# Altium schematic symbol library RES.SchLib: 321 symbols (part 1 of 3)
Pins are listed as number, name and electrical type; pins without a type are passive.

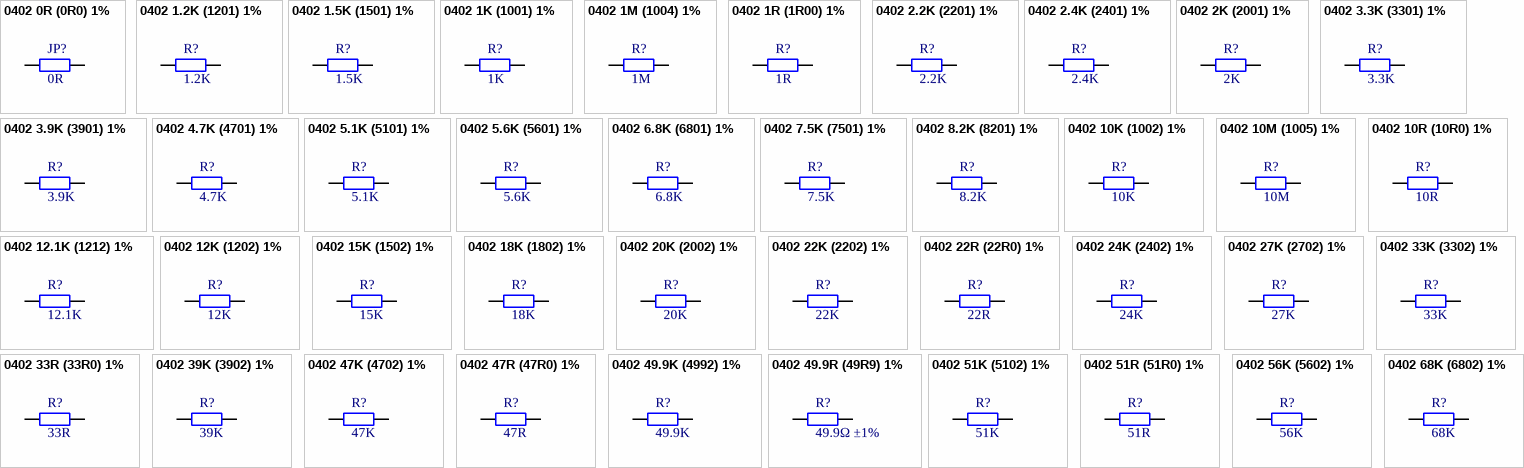
[diagram p0: symbols 0402 0R (0R0) 1% to 0402 68K (6802) 1%]

## 0402 0R (0R0) 1%
designator JP?, comment 0R
Chip resistor; Manufacturer: Uniroyal Elec; PartNumber: 0402WGF0000TCE; Power: 1/16W; Resistance: 0Ω; Tolerance: 1%; ComponentLink1Description: Supplier link; ComponentLink1URL: http://www.szlcsc.com/product/details_17853.html; Package: 0402; Supplier: LC; SuppliersPartNumber: C17168
footprint 0402_R
pins: 1, 2

## 0402 1.2K (1201) 1%
designator R?, comment 1.2K
Chip resistor; Manufacturer: Uniroyal Elec; PartNumber: 0402WGF1201TCE; Power: 1/16W; Resistance: 1.2KΩ; Tolerance: 1%; ComponentLink1Description: Supplier link; ComponentLink1URL: http://www.szlcsc.com/product/details_26605.html; Package: 0402; Supplier: LC; SuppliersPartNumber: C25862
footprint 0402_R
pins: 1, 2

## 0402 1.5K (1501) 1%
designator R?, comment 1.5K
Chip resistor; Manufacturer: Uniroyal Elec; PartNumber: 0402WGF1501TCE; Power: 1/16W; Resistance: 1.5KΩ; Tolerance: 1%; ComponentLink1Description: Supplier link; ComponentLink1URL: http://www.szlcsc.com/product/details_26610.html; Package: 0402; Supplier: LC; SuppliersPartNumber: C25867
footprint 0402_R
pins: 1, 2

## 0402 1K (1001) 1%
designator R?, comment 1K
Chip resistor; Manufacturer: Uniroyal Elec; PartNumber: 0402WGF1001TCE; Power: 1/16W; Resistance: 1KΩ; Tolerance: 1%; ComponentLink1Description: Supplier link; ComponentLink1URL: http://www.szlcsc.com/product/details_12256.html; Package: 0402; Supplier: LC; SuppliersPartNumber: C11702
footprint 0402_R
pins: 1, 2

## 0402 1M (1004) 1%
designator R?, comment 1M
Chip resistor; Manufacturer: Uniroyal Elec; PartNumber: 0402WGF1004TCE; Power: 1/16W; Resistance: 1MΩ; Tolerance: 1%; ComponentLink1Description: Supplier link; ComponentLink1URL: http://www.szlcsc.com/product/details_26826.html; Package: 0402; Supplier: LC; SuppliersPartNumber: C26083
footprint 0402_R
pins: 1, 2

## 0402 1R (1R00) 1%
designator R?, comment 1R
Chip resistor; Manufacturer: Uniroyal Elec; PartNumber: 0402WGF100KTCE; Power: 1/16W; Resistance: 1Ω; Tolerance: 1%; ComponentLink1Description: Supplier link; ComponentLink1URL: http://www.szlcsc.com/product/details_25829.html; Package: 0402; Supplier: LC; SuppliersPartNumber: C25086
footprint 0402_R
pins: 1, 2

## 0402 2.2K (2201) 1%
designator R?, comment 2.2K
Chip resistor; Manufacturer: Uniroyal Elec; PartNumber: 0402WGF2201TCE; Power: 1/16W; Resistance: 2.2KΩ; Tolerance: 1%; ComponentLink1Description: Supplier link; ComponentLink1URL: http://www.szlcsc.com/product/details_26622.html; Package: 0402; Supplier: LC; SuppliersPartNumber: C25879
footprint 0402_R
pins: 1, 2

## 0402 2.4K (2401) 1%
designator R?, comment 2.4K
Chip resistor; Manufacturer: Uniroyal Elec; PartNumber: 0402WGF2401TCE; Power: 1/16W; Resistance: 2.4KΩ; Tolerance: 1%; ComponentLink1Description: Supplier link; ComponentLink1URL: http://www.szlcsc.com/product/details_26625.html; Package: 0402; Supplier: LC; SuppliersPartNumber: C25882
footprint 0402_R
pins: 1, 2

## 0402 2K (2001) 1%
designator R?, comment 2K
Chip resistor; Manufacturer: Uniroyal Elec; PartNumber: 0402WGF2001TCE; Power: 1/16W; Resistance: 2KΩ; Tolerance: 1%; ComponentLink1Description: Supplier link; ComponentLink1URL: http://www.szlcsc.com/product/details_4516.html; Package: 0402; Supplier: LC; SuppliersPartNumber: C4109
footprint 0402_R
pins: 1, 2

## 0402 3.3K (3301) 1%
designator R?, comment 3.3K
Chip resistor; Manufacturer: Uniroyal Elec; PartNumber: 0402WGF3301TCE; Power: 1/16W; Resistance: 3.3KΩ; Tolerance: 1%; ComponentLink1Description: Supplier link; ComponentLink1URL: http://www.szlcsc.com/product/details_26633.html; Package: 0402; Supplier: LC; SuppliersPartNumber: C25890
footprint 0402_R
pins: 1, 2

## 0402 3.9K (3901) 1%
designator R?, comment 3.9K
Chip resistor; Manufacturer: Uniroyal Elec; PartNumber: 0402WGF3901TCE; Power: 1/16W; Resistance: 3.9KΩ; Tolerance: 1%; ComponentLink1Description: Supplier link; ComponentLink1URL: http://www.szlcsc.com/product/details_52734.html; Package: 0402; Supplier: LC; SuppliersPartNumber: C51721
footprint 0402_R
pins: 1, 2

## 0402 4.7K (4701) 1%
designator R?, comment 4.7K
Chip resistor; Manufacturer: Uniroyal Elec; PartNumber: 0402WGF4701TCE; Power: 1/16W; Resistance: 4.7KΩ; Tolerance: 1%; ComponentLink1Description: Supplier link; ComponentLink1URL: http://www.szlcsc.com/product/details_26643.html; Package: 0402; Supplier: LC; SuppliersPartNumber: C25900
footprint 0402_R
pins: 1, 2

## 0402 5.1K (5101) 1%
designator R?, comment 5.1K
Chip resistor; Manufacturer: Uniroyal Elec; PartNumber: 0402WGF5101TCE; Power: 1/16W; Resistance: 51.1KΩ; Tolerance: 1%; ComponentLink1Description: Supplier link; ComponentLink1URL: http://www.szlcsc.com/product/details_26648.html; Package: 0402; Supplier: LC; SuppliersPartNumber: C25905
footprint 0402_R
pins: 1, 2

## 0402 5.6K (5601) 1%
designator R?, comment 5.6K
Chip resistor; Manufacturer: Uniroyal Elec; PartNumber: 0402WGF5601TCE; Power: 1/16W; Resistance: 5.6KΩ; Tolerance: 1%; ComponentLink1Description: Supplier link; ComponentLink1URL: http://www.szlcsc.com/product/details_26651.html; Package: 0402; Supplier: LC; SuppliersPartNumber: C25908
footprint 0402_R
pins: 1, 2

## 0402 6.8K (6801) 1%
designator R?, comment 6.8K
Chip resistor; Manufacturer: Uniroyal Elec; PartNumber: 0402WGF6801TCE; Power: 1/16W; Resistance: 6.8KΩ; Tolerance: 1%; ComponentLink1Description: Supplier link; ComponentLink1URL: http://www.szlcsc.com/product/details_26660.html; Package: 0402; Supplier: LC; SuppliersPartNumber: C25917
footprint 0402_R
pins: 1, 2

## 0402 7.5K (7501) 1%
designator R?, comment 7.5K
Chip resistor; Manufacturer: Uniroyal Elec; PartNumber: 0402WGF7501TCE; Power: 1/16W; Resistance: 7.5KΩ; Tolerance: 1%; ComponentLink1Description: Supplier link; ComponentLink1URL: http://www.szlcsc.com/product/details_26661.html; Package: 0402; Supplier: LC; SuppliersPartNumber: C25918
footprint 0402_R
pins: 1, 2

## 0402 8.2K (8201) 1%
designator R?, comment 8.2K
Chip resistor; Manufacturer: Uniroyal Elec; PartNumber: 0402WGF8201TCE; Power: 1/16W; Resistance: 8.2KΩ; Tolerance: 1%; ComponentLink1Description: Supplier link; ComponentLink1URL: http://www.szlcsc.com/product/details_26667.html; Package: 0402; Supplier: LC; SuppliersPartNumber: C25924
footprint 0402_R
pins: 1, 2

## 0402 10K (1002) 1%
designator R?, comment 10K
Chip resistor; Manufacturer: Uniroyal Elec; PartNumber: 0402WGF1002TCE; Power: 1/16W; Resistance: 10KΩ; Tolerance: 1%; ComponentLink1Description: Supplier link; ComponentLink1URL: http://www.szlcsc.com/product/details_26487.html; Package: 0402; Supplier: LC; SuppliersPartNumber: C25744
footprint 0402_R
pins: 1, 2

## 0402 10M (1005) 1%
designator R?, comment 10M
Chip resistor; Manufacturer: Uniroyal Elec; PartNumber: 0402WGF1005TCE; Power: 1/16W; Resistance: 10MΩ; Tolerance: 1%; ComponentLink1Description: Supplier link; ComponentLink1URL: http://www.szlcsc.com/product/details_26825.html; Package: 0402; Supplier: LC; SuppliersPartNumber: C26082
footprint 0402_R
pins: 1, 2

## 0402 10R (10R0) 1%
designator R?, comment 10R
Chip resistor; Manufacturer: Uniroyal Elec; PartNumber: 0402WGF100JTCE; Power: 1/16W; Resistance: 10Ω; Tolerance: 1%; ComponentLink1Description: Supplier link; ComponentLink1URL: http://www.szlcsc.com/product/details_25820.html; Package: 0402; Supplier: LC; SuppliersPartNumber: C25077
footprint 0402_R
pins: 1, 2

## 0402 12.1K (1212) 1%
designator R?, comment 12.1K
Chip resistor; Manufacturer: Uniroyal Elec; PartNumber: 0402WGF1212TCE; Power: 1/16W; Resistance: 12.1KΩ; Tolerance: 1%; ComponentLink1Description: Supplier link; ComponentLink1URL: https://item.szlcsc.com/26595.html; Package: 0402; Supplier: LC; SuppliersPartNumber: C25852
footprint 0402_R
pins: 1, 2

## 0402 12K (1202) 1%
designator R?, comment 12K
Chip resistor; Manufacturer: Uniroyal Elec; PartNumber: 0402WGF1202TCE; Power: 1/16W; Resistance: 12KΩ; Tolerance: 1%; ComponentLink1Description: Supplier link; ComponentLink1URL: http://www.szlcsc.com/product/details_26495.html; Package: 0402; Supplier: LC; SuppliersPartNumber: C25752
footprint 0402_R
pins: 1, 2

## 0402 15K (1502) 1%
designator R?, comment 15K
Chip resistor; Manufacturer: Uniroyal Elec; PartNumber: 0402WGF1502TCE; Power: 1/16W; Resistance: 15KΩ; Tolerance: 1%; ComponentLink1Description: Supplier link; ComponentLink1URL: http://www.szlcsc.com/product/details_26499.html; Package: 0402; Supplier: LC; SuppliersPartNumber: C25756
footprint 0402_R
pins: 1, 2

## 0402 18K (1802) 1%
designator R?, comment 18K
Chip resistor; Manufacturer: Uniroyal Elec; PartNumber: 0402WGF1802TCE; Power: 1/16W; Resistance: 18KΩ; Tolerance: 1%; ComponentLink1Description: Supplier link; ComponentLink1URL: http://www.szlcsc.com/product/details_26505.html; Package: 0402; Supplier: LC; SuppliersPartNumber: C25762
footprint 0402_R
pins: 1, 2

## 0402 20K (2002) 1%
designator R?, comment 20K
Chip resistor; Manufacturer: Uniroyal Elec; PartNumber: 0402WGF2002TCE; Power: 1/16W; Resistance: 20KΩ; Tolerance: 1%; ComponentLink1Description: Supplier link; ComponentLink1URL: http://www.szlcsc.com/product/details_26508.html; Package: 0402; Supplier: LC; SuppliersPartNumber: C25765
footprint 0402_R
pins: 1, 2

## 0402 22K (2202) 1%
designator R?, comment 22K
Chip resistor; Manufacturer: Uniroyal Elec; PartNumber: 0402WGF2202TCE; Power: 1/16W; Resistance: 22KΩ; Tolerance: 1%; ComponentLink1Description: Supplier link; ComponentLink1URL: http://www.szlcsc.com/product/details_26511.html; Package: 0402; Supplier: LC; SuppliersPartNumber: C25768
footprint 0402_R
pins: 1, 2

## 0402 22R (22R0) 1%
designator R?, comment 22R
Chip resistor; Manufacturer: Uniroyal Elec; PartNumber: 0402WGF220JTCE; Power: 1/16W; Resistance: 22Ω; Tolerance: 1%; ComponentLink1Description: Supplier link; ComponentLink1URL: http://www.szlcsc.com/product/details_25835.html; Package: 0402; Supplier: LC; SuppliersPartNumber: C25092
footprint 0402_R
pins: 1, 2

## 0402 24K (2402) 1%
designator R?, comment 24K
Chip resistor; Manufacturer: Uniroyal Elec; PartNumber: 0402WGF2402TCE; Power: 1/16W; Resistance: 24KΩ; Tolerance: 1%; ComponentLink1Description: Supplier link; ComponentLink1URL: http://www.szlcsc.com/product/details_26512.html; Package: 0402; Supplier: LC; SuppliersPartNumber: C25769
footprint 0402_R
pins: 1, 2

## 0402 27K (2702) 1%
designator R?, comment 27K
Chip resistor; Manufacturer: Uniroyal Elec; PartNumber: 0402WGF2702TCE; Power: 1/16W; Resistance: 27KΩ; Tolerance: 1%; ComponentLink1Description: Supplier link; ComponentLink1URL: http://www.szlcsc.com/product/details_26514.html; Package: 0402; Supplier: LC; SuppliersPartNumber: C25771
footprint 0402_R
pins: 1, 2

## 0402 33K (3302) 1%
designator R?, comment 33K
Chip resistor; Manufacturer: Uniroyal Elec; PartNumber: 0402WGF3302TCE; Power: 1/16W; Resistance: 33KΩ; Tolerance: 1%; ComponentLink1Description: Supplier link; ComponentLink1URL: http://www.szlcsc.com/product/details_26522.html; Package: 0402; Supplier: LC; SuppliersPartNumber: C25779
footprint 0402_R
pins: 1, 2

## 0402 33R (33R0) 1%
designator R?, comment 33R
Chip resistor; Manufacturer: Uniroyal Elec; PartNumber: 0402WGF330JTCE; Power: 1/16W; Resistance: 33Ω; Tolerance: 1%; ComponentLink1Description: Supplier link; ComponentLink1URL: http://www.szlcsc.com/product/details_25848.html; Package: 0402; Supplier: LC; SuppliersPartNumber: C25105
footprint 0402_R
pins: 1, 2

## 0402 39K (3902) 1%
designator R?, comment 39K
Chip resistor; Manufacturer: Uniroyal Elec; PartNumber: 0402WGF3902TCE; Power: 1/16W; Resistance: 39KΩ; Tolerance: 1%; ComponentLink1Description: Supplier link; ComponentLink1URL: http://www.szlcsc.com/product/details_26526.html; Package: 0402; Supplier: LC; SuppliersPartNumber: C25783
footprint 0402_R
pins: 1, 2

## 0402 47K (4702) 1%
designator R?, comment 47K
Chip resistor; Manufacturer: Uniroyal Elec; PartNumber: 0402WGF4702TCE; Power: 1/16W; Resistance: 47KΩ; Tolerance: 1%; ComponentLink1Description: Supplier link; ComponentLink1URL: http://www.szlcsc.com/product/details_26535.html; Package: 0402; Supplier: LC; SuppliersPartNumber: C25792
footprint 0402_R
pins: 1, 2

## 0402 47R (47R0) 1%
designator R?, comment 47R
Chip resistor; Manufacturer: Uniroyal Elec; PartNumber: 0402WGF470JTCE; Power: 1/16W; Resistance: 47Ω; Tolerance: 1%; ComponentLink1Description: Supplier link; ComponentLink1URL: http://www.szlcsc.com/product/details_25861.html; Package: 0402; Supplier: LC; SuppliersPartNumber: C25118
footprint 0402_R
pins: 1, 2

## 0402 49.9K (4992) 1%
designator R?, comment 49.9K
Chip resistor; Manufacturer: Uniroyal Elec; PartNumber: 0402WGF4992TCE; Power: 1/16W; Resistance: 49.9KΩ; Tolerance: 1%; ComponentLink1Description: Supplier link; ComponentLink1URL: http://www.szlcsc.com/product/details_26640.html; Package: 0402; Supplier: LC; SuppliersPartNumber: C25897
footprint 0402_R
pins: 1, 2

## 0402 49.9R (49R9) 1%
designator R?, comment 49.9Ω ±1%
Chip resistor; Manufacturer: Uniroyal Elec; PartNumber: 0402WGF499JTCE; Power: 1/16W; ComponentLink1Description: Supplier link; ComponentLink1URL: http://www.szlcsc.com/product/details_25863.html; Package: 0402; Supplier: LC; SuppliersPartNumber: C25120; Resistance: 49.9Ω; Tolerance: 1%
footprint 0402_R
pins: 1, 2

## 0402 51K (5102) 1%
designator R?, comment 51K
Chip resistor; Manufacturer: Uniroyal Elec; PartNumber: 0402WGF5102TCE; Power: 1/16W; Resistance: 51KΩ; Tolerance: 1%; ComponentLink1Description: Supplier link; ComponentLink1URL: http://www.szlcsc.com/product/details_26537.html; Package: 0402; Supplier: LC; SuppliersPartNumber: C25794
footprint 0402_R
pins: 1, 2

## 0402 51R (51R0) 1%
designator R?, comment 51R
Chip resistor; Manufacturer: Uniroyal Elec; PartNumber: 0402WGF510JTCE; Power: 1/16W; Resistance: 51Ω; Tolerance: 1%; ComponentLink1Description: Supplier link; ComponentLink1URL: http://www.szlcsc.com/product/details_25868.html; Package: 0402; Supplier: LC; SuppliersPartNumber: C25125
footprint 0402_R
pins: 1, 2

## 0402 56K (5602) 1%
designator R?, comment 56K
Chip resistor; Manufacturer: Uniroyal Elec; PartNumber: 0402WGF5602TCE; Power: 1/16W; Resistance: 56KΩ; Tolerance: 1%; ComponentLink1Description: Supplier link; ComponentLink1URL: http://www.szlcsc.com/product/details_26539.html; Package: 0402; Supplier: LC; SuppliersPartNumber: C25796
footprint 0402_R
pins: 1, 2

## 0402 68K (6802) 1%
designator R?, comment 68K
Chip resistor; Manufacturer: Uniroyal Elec; PartNumber: 0402WGF6802TCE; Power: 1/16W; Resistance: 68KΩ; Tolerance: 1%; ComponentLink1Description: Supplier link; ComponentLink1URL: http://www.szlcsc.com/product/details_37849.html; Package: 0402; Supplier: LC; SuppliersPartNumber: C36871
footprint 0402_R
pins: 1, 2

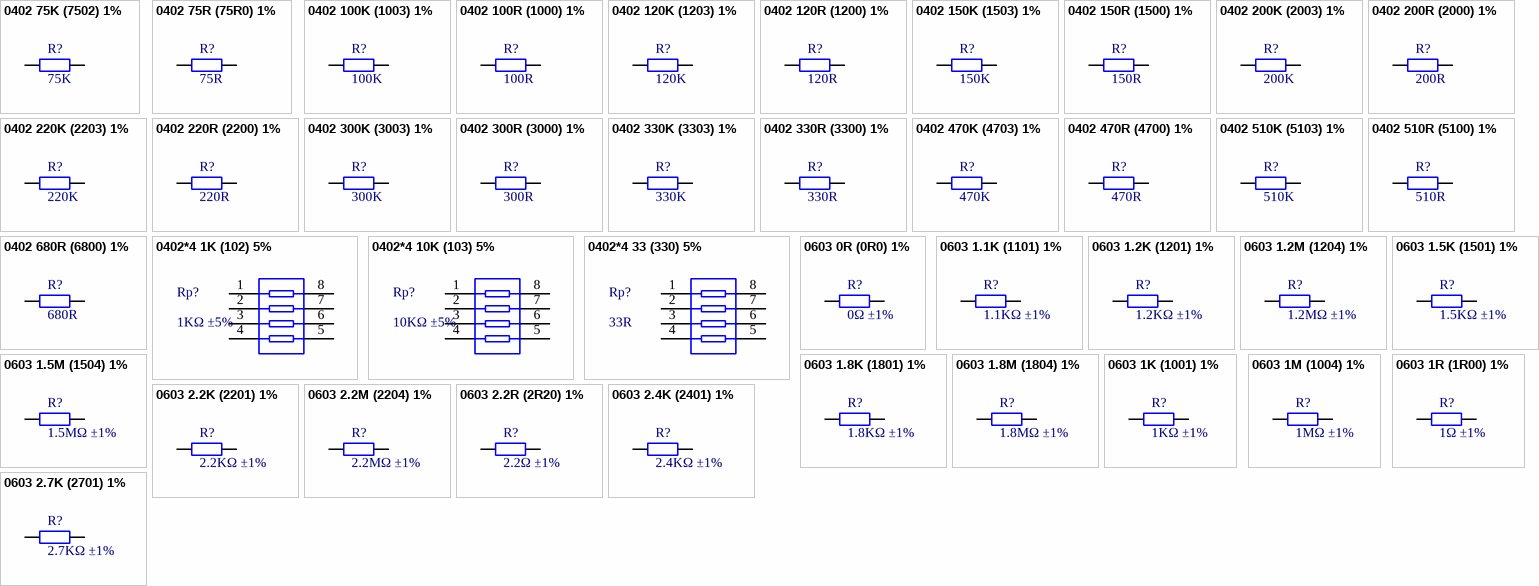
[diagram p1: symbols 0402 75K (7502) 1% to 0603 2.7K (2701) 1%]

## 0402 75K (7502) 1%
designator R?, comment 75K
Chip resistor; Manufacturer: Uniroyal Elec; PartNumber: 0402WGF7502TCE; Power: 1/16W; Resistance: 75KΩ; Tolerance: 1%; ComponentLink1Description: Supplier link; ComponentLink1URL: http://www.szlcsc.com/product/details_26541.html; Package: 0402; Supplier: LC; SuppliersPartNumber: C25798
footprint 0402_R
pins: 1, 2

## 0402 75R (75R0) 1%
designator R?, comment 75R
Chip resistor; Manufacturer: Uniroyal Elec; PartNumber: 0402WGF750JTCE; Power: 1/16W; Resistance: 75Ω; Tolerance: 1%; ComponentLink1Description: Supplier link; ComponentLink1URL: http://www.szlcsc.com/product/details_25876.html; Package: 0402; Supplier: LC; SuppliersPartNumber: C25133
footprint 0402_R
pins: 1, 2

## 0402 100K (1003) 1%
designator R?, comment 100K
Chip resistor; Manufacturer: Uniroyal Elec; PartNumber: 0402WGF1003TCE; Power: 1/16W; Resistance: 100KΩ; Tolerance: 1%; ComponentLink1Description: Supplier link; ComponentLink1URL: http://www.szlcsc.com/product/details_26484.html; Package: 0402; Supplier: LC; SuppliersPartNumber: C25741
footprint 0402_R
pins: 1, 2

## 0402 100R (1000) 1%
designator R?, comment 100R
Chip resistor; Manufacturer: Uniroyal Elec; PartNumber: 0402WGF1000TCE; Power: 1/16W; Resistance: 100Ω; Tolerance: 1%; ComponentLink1Description: Supplier link; ComponentLink1URL: http://www.szlcsc.com/product/details_25819.html; Package: 0402; Supplier: LC; SuppliersPartNumber: C25076
footprint 0402_R
pins: 1, 2

## 0402 120K (1203) 1%
designator R?, comment 120K
Chip resistor; Manufacturer: Uniroyal Elec; PartNumber: 0402WGF1203TCE; Power: 1/16W; Resistance: 120KΩ; Tolerance: 1%; ComponentLink1Description: Supplier link; ComponentLink1URL: http://www.szlcsc.com/product/details_26493.html; Package: 0402; Supplier: LC; SuppliersPartNumber: C25750
footprint 0402_R
pins: 1, 2

## 0402 120R (1200) 1%
designator R?, comment 120R
Chip resistor; Manufacturer: Uniroyal Elec; PartNumber: 0402WGF1200TCE; Power: 1/16W; Resistance: 120Ω; Tolerance: 1%; ComponentLink1Description: Supplier link; ComponentLink1URL: http://www.szlcsc.com/product/details_25822.html; Package: 0402; Supplier: LC; SuppliersPartNumber: C25079
footprint 0402_R
pins: 1, 2

## 0402 150K (1503) 1%
designator R?, comment 150K
Chip resistor; Manufacturer: Uniroyal Elec; PartNumber: 0402WGF1503TCE; Power: 1/16W; Resistance: 150KΩ; Tolerance: 1%; ComponentLink1Description: Supplier link; ComponentLink1URL: http://www.szlcsc.com/product/details_26498.html; Package: 0402; Supplier: LC; SuppliersPartNumber: C25755
footprint 0402_R
pins: 1, 2

## 0402 150R (1500) 1%
designator R?, comment 150R
Chip resistor; Manufacturer: Uniroyal Elec; PartNumber: 0402WGF1500TCE; Power: 1/16W; Resistance: 150Ω; Tolerance: 1%; ComponentLink1Description: Supplier link; ComponentLink1URL: http://www.szlcsc.com/product/details_25825.html; Package: 0402; Supplier: LC; SuppliersPartNumber: C25082
footprint 0402_R
pins: 1, 2

## 0402 200K (2003) 1%
designator R?, comment 200K
Chip resistor; Manufacturer: Uniroyal Elec; PartNumber: 0402WGF2003TCE; Power: 1/16W; Resistance: 200KΩ; Tolerance: 1%; ComponentLink1Description: Supplier link; ComponentLink1URL: http://www.szlcsc.com/product/details_26507.html; Package: 0402; Supplier: LC; SuppliersPartNumber: C25764
footprint 0402_R
pins: 1, 2

## 0402 200R (2000) 1%
designator R?, comment 200R
Chip resistor; Manufacturer: Uniroyal Elec; PartNumber: 0402WGF2000TCE; Power: 1/16W; Resistance: 200Ω; Tolerance: 1%; ComponentLink1Description: Supplier link; ComponentLink1URL: http://www.szlcsc.com/product/details_25830.html; Package: 0402; Supplier: LC; SuppliersPartNumber: C25087
footprint 0402_R
pins: 1, 2

## 0402 220K (2203) 1%
designator R?, comment 220K
Chip resistor; Manufacturer: Uniroyal Elec; PartNumber: 0402WGF2203TCE; Power: 1/16W; Resistance: 220KΩ; Tolerance: 1%; ComponentLink1Description: Supplier link; ComponentLink1URL: http://www.szlcsc.com/product/details_26510.html; Package: 0402; Supplier: LC; SuppliersPartNumber: C25767
footprint 0402_R
pins: 1, 2

## 0402 220R (2200) 1%
designator R?, comment 220R
Chip resistor; Manufacturer: Uniroyal Elec; PartNumber: 0402WGF2200TCE; Power: 1/16W; Resistance: 220Ω; Tolerance: 1%; ComponentLink1Description: Supplier link; ComponentLink1URL: http://www.szlcsc.com/product/details_25834.html; Package: 0402; Supplier: LC; SuppliersPartNumber: C25091
footprint 0402_R
pins: 1, 2

## 0402 300K (3003) 1%
designator R?, comment 300K
Chip resistor; Manufacturer: Uniroyal Elec; PartNumber: 0402WGF3003TCE; Power: 1/16W; Resistance: 300KΩ; Tolerance: 1%; ComponentLink1Description: Supplier link; ComponentLink1URL: http://www.szlcsc.com/product/details_26517.html; Package: 0402; Supplier: LC; SuppliersPartNumber: C25774
footprint 0402_R
pins: 1, 2

## 0402 300R (3000) 1%
designator R?, comment 300R
Chip resistor; Manufacturer: Uniroyal Elec; PartNumber: 0402WGF3000TCE; Power: 1/16W; Resistance: 300Ω; Tolerance: 1%; ComponentLink1Description: Supplier link; ComponentLink1URL: http://www.szlcsc.com/product/details_25845.html; Package: 0402; Supplier: LC; SuppliersPartNumber: C25102
footprint 0402_R
pins: 1, 2

## 0402 330K (3303) 1%
designator R?, comment 330K
Chip resistor; Manufacturer: Uniroyal Elec; PartNumber: 0402WGF3303TCE; Power: 1/16W; Resistance: 330KΩ; Tolerance: 1%; ComponentLink1Description: Supplier link; ComponentLink1URL: http://www.szlcsc.com/product/details_26521.html; Package: 0402; Supplier: LC; SuppliersPartNumber: C25778
footprint 0402_R
pins: 1, 2

## 0402 330R (3300) 1%
designator R?, comment 330R
Chip resistor; Manufacturer: Uniroyal Elec; PartNumber: 0402WGF3300TCE; Power: 1/16W; Resistance: 330Ω; Tolerance: 1%; ComponentLink1Description: Supplier link; ComponentLink1URL: http://www.szlcsc.com/product/details_25847.html; Package: 0402; Supplier: LC; SuppliersPartNumber: C25104
footprint 0402_R
pins: 1, 2

## 0402 470K (4703) 1%
designator R?, comment 470K
Chip resistor; Manufacturer: Uniroyal Elec; PartNumber: 0402WGF4703TCE; Power: 1/16W; Resistance: 470KΩ; Tolerance: 1%; ComponentLink1Description: Supplier link; ComponentLink1URL: http://www.szlcsc.com/product/details_26533.html; Package: 0402; Supplier: LC; SuppliersPartNumber: C25790
footprint 0402_R
pins: 1, 2

## 0402 470R (4700) 1%
designator R?, comment 470R
Chip resistor; Manufacturer: Uniroyal Elec; PartNumber: 0402WGF4700TCE; Power: 1/16W; Resistance: 470Ω; Tolerance: 1%; ComponentLink1Description: Supplier link; ComponentLink1URL: http://www.szlcsc.com/product/details_25860.html; Package: 0402; Supplier: LC; SuppliersPartNumber: C25117
footprint 0402_R
pins: 1, 2

## 0402 510K (5103) 1%
designator R?, comment 510K
Chip resistor; Manufacturer: Uniroyal Elec; PartNumber: 0402WGF5103TCE; Power: 1/16W; Resistance: 510KΩ; Tolerance: 1%; ComponentLink1Description: Supplier link; ComponentLink1URL: http://www.szlcsc.com/product/details_12170.html; Package: 0402; Supplier: LC; SuppliersPartNumber: C11616
footprint 0402_R
pins: 1, 2

## 0402 510R (5100) 1%
designator R?, comment 510R
Chip resistor; Manufacturer: Uniroyal Elec; PartNumber: 0402WGF5100TCE; Power: 1/16W; Resistance: 510Ω; Tolerance: 1%; ComponentLink1Description: Supplier link; ComponentLink1URL: http://www.szlcsc.com/product/details_25866.html; Package: 0402; Supplier: LC; SuppliersPartNumber: C25123
footprint 0402_R
pins: 1, 2

## 0402 680R (6800) 1%
designator R?, comment 680R
Chip resistor; Manufacturer: Uniroyal Elec; PartNumber: 0402WGF6800TCE; Power: 1/16W; Resistance: 680Ω; Tolerance: 1%; ComponentLink1Description: Supplier link; ComponentLink1URL: http://www.szlcsc.com/product/details_25873.html; Package: 0402; Supplier: LC; SuppliersPartNumber: C25130
footprint 0402_R
pins: 1, 2

## 0402*4 1K (102) 5%
designator Rp?, comment 1KΩ ±5%
Resistor Array; Manufacturer: Uniroyal Elec; PartNumber: 4D02WGJ0102TCE; Power: 1/16W; ComponentLink1Description: Supplier link; ComponentLink1URL: http://www.szlcsc.com/product/details_26469.html; Package: 0402*4; Supplier: LC; SuppliersPartNumber: C25726; Tolerance: 5%; Resistance: 1KΩ
footprint 0402_Rx4
pins: 1, 2, 3, 4, 5, 6, 7, 8

## 0402*4 10K (103) 5%
designator Rp?, comment 10KΩ ±5%
Resistor Array; Manufacturer: Uniroyal Elec; PartNumber: 4D02WGJ0103TCE; Power: 1/16W; ComponentLink1Description: Supplier link; ComponentLink1URL: http://www.szlcsc.com/product/details_26468.html; Package: 0402*4; Supplier: LC; SuppliersPartNumber: C25725; Tolerance: 5%; Resistance: 10KΩ
footprint 0402_Rx4
pins: 1, 2, 3, 4, 5, 6, 7, 8

## 0402*4 33 (330) 5%
designator Rp?, comment 33R
Resistor Array; Manufacturer: Uniroyal Elec; PartNumber: 4D02WGJ0330TCE; Resistance: 33Ω; Tolerance: 5%; Power: 1/16W; ComponentLink1Description: Supplier link; ComponentLink1URL: http://www.szlcsc.com/product/details_26244.html; Package: 0402*4; Supplier: LC; SuppliersPartNumber: C25501
footprint 0402_Rx4
pins: 1, 2, 3, 4, 5, 6, 7, 8

## 0603 0R (0R0) 1%
designator R?, comment 0Ω ±1%
Chip resistor; Manufacturer: Uniroyal Elec; PartNumber: 0603WAF0000T5E; Power: 1/10W; ComponentLink1Description: Supplier link; ComponentLink1URL: http://www.szlcsc.com/product/details_21903.html; Package: 0603; Supplier: LC; SuppliersPartNumber: C21189; Resistance: 0Ω; Tolerance: 1%
footprint 0603_R
pins: 1, 2

## 0603 1.1K (1101) 1%
designator R?, comment 1.1KΩ ±1%
Chip resistor; Manufacturer: Uniroyal Elec; PartNumber: 0603WAF1101T5E; Power: 1/10W; ComponentLink1Description: Supplier link; ComponentLink1URL: http://www.szlcsc.com/product/details_23491.html; Package: 0603; Supplier: LC; SuppliersPartNumber: C22764; Resistance: 1.1KΩ; Tolerance: 1%
footprint 0603_R
pins: 1, 2

## 0603 1.2K (1201) 1%
designator R?, comment 1.2KΩ ±1%
Chip resistor; Manufacturer: Uniroyal Elec; PartNumber: 0603WAF1201T5E; Power: 1/10W; ComponentLink1Description: Supplier link; ComponentLink1URL: http://www.szlcsc.com/product/details_23492.html; Package: 0603; Supplier: LC; SuppliersPartNumber: C22765; Resistance: 1.2KΩ; Tolerance: 1%
footprint 0603_R
pins: 1, 2

## 0603 1.2M (1204) 1%
designator R?, comment 1.2MΩ ±1%
Chip resistor; Manufacturer: Uniroyal Elec; PartNumber: 0603WAF1204T5E; Power: 1/10W; ComponentLink1Description: Supplier link; ComponentLink1URL: http://www.szlcsc.com/product/details_23493.html; Package: 0603; Supplier: LC; SuppliersPartNumber: C22766; Resistance: 1.2MΩ; Tolerance: 1%
footprint 0603_R
pins: 1, 2

## 0603 1.5K (1501) 1%
designator R?, comment 1.5KΩ ±1%
Chip resistor; Manufacturer: Uniroyal Elec; PartNumber: 0603WAF1501T5E; Power: 1/10W; ComponentLink1Description: Supplier link; ComponentLink1URL: http://www.szlcsc.com/product/details_23570.html; Package: 0603; Supplier: LC; SuppliersPartNumber: C22843; Resistance: 1.5KΩ; Tolerance: 1%
footprint 0603_R
pins: 1, 2

## 0603 1.5M (1504) 1%
designator R?, comment 1.5MΩ ±1%
Chip resistor; Manufacturer: Uniroyal Elec; PartNumber: 0603WAF1504T5E; Power: 1/10W; ComponentLink1Description: Supplier link; ComponentLink1URL: http://www.szlcsc.com/product/details_4579.html; Package: 0603; Supplier: LC; SuppliersPartNumber: C4172; Resistance: 1.5MΩ; Tolerance: 1%
footprint 0603_R
pins: 1, 2

## 0603 1.8K (1801) 1%
designator R?, comment 1.8KΩ ±1%
Chip resistor; Manufacturer: Uniroyal Elec; PartNumber: 0603WAF1801T5E; Power: 1/10W; ComponentLink1Description: Supplier link; ComponentLink1URL: http://www.szlcsc.com/product/details_4584.html; Package: 0603; Supplier: LC; SuppliersPartNumber: C4177; Resistance: 1.8KΩ; Tolerance: 1%
footprint 0603_R
pins: 1, 2

## 0603 1.8M (1804) 1%
designator R?, comment 1.8MΩ ±1%
Chip resistor; Manufacturer: Uniroyal Elec; PartNumber: 0603WAF1804T5E; Power: 1/10W; ComponentLink1Description: Supplier link; ComponentLink1URL: http://www.szlcsc.com/product/details_23579.html; Package: 0603; Supplier: LC; SuppliersPartNumber: C22852; Resistance: 1.8MΩ; Tolerance: 1%
footprint 0603_R
pins: 1, 2

## 0603 1K (1001) 1%
designator R?, comment 1KΩ ±1%
Chip resistor; Manufacturer: Uniroyal Elec; PartNumber: 0603WAF1001T5E; Power: 1/10W; ComponentLink1Description: Supplier link; ComponentLink1URL: http://www.szlcsc.com/product/details_21904.html; Package: 0603; Supplier: LC; SuppliersPartNumber: C21190; Resistance: 1KΩ; Tolerance: 1%
footprint 0603_R
pins: 1, 2

## 0603 1M (1004) 1%
designator R?, comment 1MΩ ±1%
Chip resistor; Manufacturer: Uniroyal Elec; PartNumber: 0603WAF1004T5E; Power: 1/10W; ComponentLink1Description: Supplier link; ComponentLink1URL: http://www.szlcsc.com/product/details_23662.html; Package: 0603; Supplier: LC; SuppliersPartNumber: C22935; Resistance: 1MΩ; Tolerance: 1%
footprint 0603_R
pins: 1, 2

## 0603 1R (1R00) 1%
designator R?, comment 1Ω ±1%
Chip resistor; Manufacturer: Uniroyal Elec; PartNumber: 0603WAF100KT5E; Power: 1/10W; ComponentLink1Description: Supplier link; ComponentLink1URL: http://www.szlcsc.com/product/details_23663.html; Package: 0603; Supplier: LC; SuppliersPartNumber: C22936; Resistance: 1Ω; Tolerance: 1%
footprint 0603_R
pins: 1, 2

## 0603 2.2K (2201) 1%
designator R?, comment 2.2KΩ ±1%
Chip resistor; Manufacturer: Uniroyal Elec; PartNumber: 0603WAF2201T5E; Power: 1/10W; ComponentLink1Description: Supplier link; ComponentLink1URL: http://www.szlcsc.com/product/details_4597.html; Package: 0603; Supplier: LC; SuppliersPartNumber: C4190; Resistance: 2.2KΩ; Tolerance: 1%
footprint 0603_R
pins: 1, 2

## 0603 2.2M (2204) 1%
designator R?, comment 2.2MΩ ±1%
Chip resistor; Manufacturer: Uniroyal Elec; PartNumber: 0603WAF2204T5E; Power: 1/10W; ComponentLink1Description: Supplier link; ComponentLink1URL: http://www.szlcsc.com/product/details_23665.html; Package: 0603; Supplier: LC; SuppliersPartNumber: C22938; Resistance: 2.2MΩ; Tolerance: 1%
footprint 0603_R
pins: 1, 2

## 0603 2.2R (2R20) 1%
designator R?, comment 2.2Ω ±1%
Chip resistor; Manufacturer: Uniroyal Elec; PartNumber: 0603WAF220KT5E; Power: 1/10W; ComponentLink1Description: Supplier link; ComponentLink1URL: http://www.szlcsc.com/product/details_23666.html; Package: 0603; Supplier: LC; SuppliersPartNumber: C22939; Resistance: 2.2Ω; Tolerance: 1%
footprint 0603_R
pins: 1, 2

## 0603 2.4K (2401) 1%
designator R?, comment 2.4KΩ ±1%
Chip resistor; Manufacturer: Uniroyal Elec; PartNumber: 0603WAF2401T5E; Power: 1/10W; ComponentLink1Description: Supplier link; ComponentLink1URL: http://www.szlcsc.com/product/details_23667.html; Package: 0603; Supplier: LC; SuppliersPartNumber: C22940; Resistance: 2.4KΩ; Tolerance: 1%
footprint 0603_R
pins: 1, 2

## 0603 2.7K (2701) 1%
designator R?, comment 2.7KΩ ±1%
Chip resistor; Manufacturer: Uniroyal Elec; PartNumber: 0603WAF2701T5E; Power: 1/10W; ComponentLink1Description: Supplier link; ComponentLink1URL: http://www.szlcsc.com/product/details_13814.html; Package: 0603; Supplier: LC; SuppliersPartNumber: C13167; Resistance: 2.7KΩ; Tolerance: 1%
footprint 0603_R
pins: 1, 2

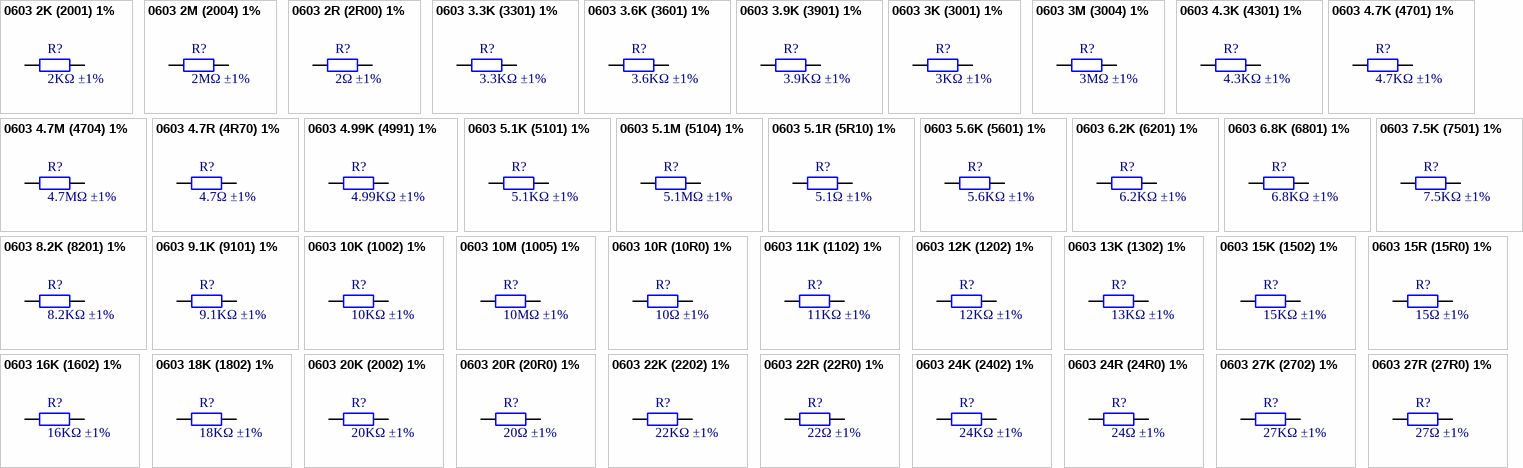
[diagram p2: symbols 0603 2K (2001) 1% to 0603 27R (27R0) 1%]

## 0603 2K (2001) 1%
designator R?, comment 2KΩ ±1%
Chip resistor; Manufacturer: Uniroyal Elec; PartNumber: 0603WAF2001T5E; Power: 1/10W; ComponentLink1Description: Supplier link; ComponentLink1URL: http://www.szlcsc.com/product/details_23702.html; Package: 0603; Supplier: LC; SuppliersPartNumber: C22975; Resistance: 2KΩ; Tolerance: 1%
footprint 0603_R
pins: 1, 2

## 0603 2M (2004) 1%
designator R?, comment 2MΩ ±1%
Chip resistor; Manufacturer: Uniroyal Elec; PartNumber: 0603WAF2004T5E; Power: 1/10W; ComponentLink1Description: Supplier link; ComponentLink1URL: http://www.szlcsc.com/product/details_23703.html; Package: 0603; Supplier: LC; SuppliersPartNumber: C22976; Resistance: 2MΩ; Tolerance: 1%
footprint 0603_R
pins: 1, 2

## 0603 2R (2R00) 1%
designator R?, comment 2Ω ±1%
Chip resistor; Manufacturer: Uniroyal Elec; PartNumber: 0603WAF200KT5E; Power: 1/10W; ComponentLink1Description: Supplier link; ComponentLink1URL: http://www.szlcsc.com/product/details_23704.html; Package: 0603; Supplier: LC; SuppliersPartNumber: C22977; Resistance: 2Ω; Tolerance: 1%
footprint 0603_R
pins: 1, 2

## 0603 3.3K (3301) 1%
designator R?, comment 3.3KΩ ±1%
Chip resistor; Manufacturer: Uniroyal Elec; PartNumber: 0603WAF3301T5E; Power: 1/10W; ComponentLink1Description: Supplier link; ComponentLink1URL: http://www.szlcsc.com/product/details_23705.html; Package: 0603; Supplier: LC; SuppliersPartNumber: C22978; Resistance: 3.3KΩ; Tolerance: 1%
footprint 0603_R
pins: 1, 2

## 0603 3.6K (3601) 1%
designator R?, comment 3.6KΩ ±1%
Chip resistor; Manufacturer: Uniroyal Elec; PartNumber: 0603WAF3601T5E; Power: 1/10W; ComponentLink1Description: Supplier link; ComponentLink1URL: http://www.szlcsc.com/product/details_23707.html; Package: 0603; Supplier: LC; SuppliersPartNumber: C22980; Resistance: 3.6KΩ; Tolerance: 1%
footprint 0603_R
pins: 1, 2

## 0603 3.9K (3901) 1%
designator R?, comment 3.9KΩ ±1%
Chip resistor; Manufacturer: Uniroyal Elec; PartNumber: 0603WAF3901T5E; Power: 1/10W; ComponentLink1Description: Supplier link; ComponentLink1URL: http://www.szlcsc.com/product/details_23745.html; Package: 0603; Supplier: LC; SuppliersPartNumber: C23018; Resistance: 3.9KΩ; Tolerance: 1%
footprint 0603_R
pins: 1, 2

## 0603 3K (3001) 1%
designator R?, comment 3KΩ ±1%
Chip resistor; Manufacturer: Uniroyal Elec; PartNumber: 0603WAF3001T5E; Power: 1/10W; ComponentLink1Description: Supplier link; ComponentLink1URL: http://www.szlcsc.com/product/details_4618.html; Package: 0603; Supplier: LC; SuppliersPartNumber: C4211; Resistance: 3KΩ; Tolerance: 1%
footprint 0603_R
pins: 1, 2

## 0603 3M (3004) 1%
designator R?, comment 3MΩ ±1%
Chip resistor; Manufacturer: Uniroyal Elec; PartNumber: 0603WAF3004T5E; Power: 1/10W; ComponentLink1Description: Supplier link; ComponentLink1URL: http://www.szlcsc.com/product/details_23883.html; Package: 0603; Supplier: LC; SuppliersPartNumber: C23156; Resistance: 3MΩ; Tolerance: 1%
footprint 0603_R
pins: 1, 2

## 0603 4.3K (4301) 1%
designator R?, comment 4.3KΩ ±1%
Chip resistor; Manufacturer: Uniroyal Elec; PartNumber: 0603WAF4301T5E; Power: 1/10W; ComponentLink1Description: Supplier link; ComponentLink1URL: http://www.szlcsc.com/product/details_23886.html; Package: 0603; Supplier: LC; SuppliersPartNumber: C23159; Resistance: 4.3KΩ; Tolerance: 1%
footprint 0603_R
pins: 1, 2

## 0603 4.7K (4701) 1%
designator R?, comment 4.7KΩ ±1%
Chip resistor; Manufacturer: Uniroyal Elec; PartNumber: 0603WAF4701T5E; Power: 1/10W; ComponentLink1Description: Supplier link; ComponentLink1URL: http://www.szlcsc.com/product/details_23889.html; Package: 0603; Supplier: LC; SuppliersPartNumber: C23162; Resistance: 4.7KΩ; Tolerance: 1%
footprint 0603_R
pins: 1, 2

## 0603 4.7M (4704) 1%
designator R?, comment 4.7MΩ ±1%
Chip resistor; Manufacturer: Uniroyal Elec; PartNumber: 0603WAF4704T5E; Power: 1/10W; ComponentLink1Description: Supplier link; ComponentLink1URL: http://www.szlcsc.com/product/details_23890.html; Package: 0603; Supplier: LC; SuppliersPartNumber: C23163; Resistance: 4.7MΩ; Tolerance: 1%
footprint 0603_R
pins: 1, 2

## 0603 4.7R (4R70) 1%
designator R?, comment 4.7Ω ±1%
Chip resistor; Manufacturer: Uniroyal Elec; PartNumber: 0603WAF470KT5E; Power: 1/10W; ComponentLink1Description: Supplier link; ComponentLink1URL: http://www.szlcsc.com/product/details_23891.html; Package: 0603; Supplier: LC; SuppliersPartNumber: C23164; Resistance: 4.7Ω; Tolerance: 1%
footprint 0603_R
pins: 1, 2

## 0603 4.99K (4991) 1%
designator R?, comment 4.99KΩ ±1%
Chip resistor; Manufacturer: Uniroyal Elec; PartNumber: 0603WAF4991T5E; Power: 1/10W; ComponentLink1Description: Supplier link; ComponentLink1URL: http://www.szlcsc.com/product/details_23773.html; Package: 0603; Supplier: LC; SuppliersPartNumber: C23046; Resistance: 4.99KΩ; Tolerance: 1%
footprint 0603_R
pins: 1, 2

## 0603 5.1K (5101) 1%
designator R?, comment 5.1KΩ ±1%
Chip resistor; Manufacturer: Uniroyal Elec; PartNumber: 0603WAF5101T5E; Power: 1/10W; ComponentLink1Description: Supplier link; ComponentLink1URL: http://www.szlcsc.com/product/details_23913.html; Package: 0603; Supplier: LC; SuppliersPartNumber: C23186; Resistance: 5.1KΩ; Tolerance: 1%
footprint 0603_R
pins: 1, 2

## 0603 5.1M (5104) 1%
designator R?, comment 5.1MΩ ±1%
Chip resistor; Manufacturer: Uniroyal Elec; PartNumber: 0603WAF5104T5E; Power: 1/10W; ComponentLink1Description: Supplier link; ComponentLink1URL: http://www.szlcsc.com/product/details_13967.html; Package: 0603; Supplier: LC; SuppliersPartNumber: C13320; Resistance: 5.1MΩ; Tolerance: 1%
footprint 0603_R
pins: 1, 2

## 0603 5.1R (5R10) 1%
designator R?, comment 5.1Ω ±1%
Chip resistor; Manufacturer: Uniroyal Elec; PartNumber: 0603WAF510KT5E; Power: 1/10W; ComponentLink1Description: Supplier link; ComponentLink1URL: http://www.szlcsc.com/product/details_25940.html; Package: 0603; Supplier: LC; SuppliersPartNumber: C25197; Resistance: 5.1Ω; Tolerance: 1%
footprint 0603_R
pins: 1, 2

## 0603 5.6K (5601) 1%
designator R?, comment 5.6KΩ ±1%
Chip resistor; Manufacturer: Uniroyal Elec; PartNumber: 0603WAF5601T5E; Power: 1/10W; ComponentLink1Description: Supplier link; ComponentLink1URL: http://www.szlcsc.com/product/details_23916.html; Package: 0603; Supplier: LC; SuppliersPartNumber: C23189; Resistance: 5.6KΩ; Tolerance: 1%
footprint 0603_R
pins: 1, 2

## 0603 6.2K (6201) 1%
designator R?, comment 6.2KΩ ±1%
Chip resistor; Manufacturer: Uniroyal Elec; PartNumber: 0603WAF6201T5E; Power: 1/10W; ComponentLink1Description: Supplier link; ComponentLink1URL: http://www.szlcsc.com/product/details_4667.html; Package: 0603; Supplier: LC; SuppliersPartNumber: C4260; Resistance: 6.2KΩ; Tolerance: 1%
footprint 0603_R
pins: 1, 2

## 0603 6.8K (6801) 1%
designator R?, comment 6.8KΩ ±1%
Chip resistor; Manufacturer: Uniroyal Elec; PartNumber: 0603WAF6801T5E; Power: 1/10W; ComponentLink1Description: Supplier link; ComponentLink1URL: http://www.szlcsc.com/product/details_23939.html; Package: 0603; Supplier: LC; SuppliersPartNumber: C23212; Resistance: 6.8KΩ; Tolerance: 1%
footprint 0603_R
pins: 1, 2

## 0603 7.5K (7501) 1%
designator R?, comment 7.5KΩ ±1%
Chip resistor; Manufacturer: Uniroyal Elec; PartNumber: 0603WAF7501T5E; Power: 1/10W; ComponentLink1Description: Supplier link; ComponentLink1URL: http://www.szlcsc.com/product/details_23961.html; Package: 0603; Supplier: LC; SuppliersPartNumber: C23234; Resistance: 7.5KΩ; Tolerance: 1%
footprint 0603_R
pins: 1, 2

## 0603 8.2K (8201) 1%
designator R?, comment 8.2KΩ ±1%
Chip resistor; Manufacturer: Uniroyal Elec; PartNumber: 0603WAF8201T5E; Power: 1/10W; ComponentLink1Description: Supplier link; ComponentLink1URL: http://www.szlcsc.com/product/details_26724.html; Package: 0603; Supplier: LC; SuppliersPartNumber: C25981; Resistance: 8.2KΩ; Tolerance: 1%
footprint 0603_R
pins: 1, 2

## 0603 9.1K (9101) 1%
designator R?, comment 9.1KΩ ±1%
Chip resistor; Manufacturer: Uniroyal Elec; PartNumber: 0603WAF9101T5E; Power: 1/10W; ComponentLink1Description: Supplier link; ComponentLink1URL: http://www.szlcsc.com/product/details_23987.html; Package: 0603; Supplier: LC; SuppliersPartNumber: C23260; Resistance: 9.1KΩ; Tolerance: 1%
footprint 0603_R
pins: 1, 2

## 0603 10K (1002) 1%
designator R?, comment 10KΩ ±1%
Chip resistor; Manufacturer: Uniroyal Elec; PartNumber: 0603WAF1002T5E; Power: 1/10W; ComponentLink1Description: Supplier link; ComponentLink1URL: http://www.szlcsc.com/product/details_26547.html; Package: 0603; Supplier: LC; SuppliersPartNumber: C25804; Resistance: 10KΩ; Tolerance: 1%
footprint 0603_R
pins: 1, 2

## 0603 10M (1005) 1%
designator R?, comment 10MΩ ±1%
Chip resistor; Manufacturer: Uniroyal Elec; PartNumber: 0603WAF1005T5E; Power: 1/10W; ComponentLink1Description: Supplier link; ComponentLink1URL: http://www.szlcsc.com/product/details_7726.html; Package: 0603; Supplier: LC; SuppliersPartNumber: C7250; Resistance: 10MΩ; Tolerance: 1%
footprint 0603_R
pins: 1, 2

## 0603 10R (10R0) 1%
designator R?, comment 10Ω ±1%
Chip resistor; Manufacturer: Uniroyal Elec; PartNumber: 0603WAF100JT5E; Power: 1/10W; ComponentLink1Description: Supplier link; ComponentLink1URL: http://www.szlcsc.com/product/details_23586.html; Package: 0603; Supplier: LC; SuppliersPartNumber: C22859; Resistance: 10Ω; Tolerance: 1%
footprint 0603_R
pins: 1, 2

## 0603 11K (1102) 1%
designator R?, comment 11KΩ ±1%
Chip resistor; Manufacturer: Uniroyal Elec; PartNumber: 0603WAF1102T5E; Power: 1/10W; ComponentLink1Description: Supplier link; ComponentLink1URL: http://www.szlcsc.com/product/details_26693.html; Package: 0603; Supplier: LC; SuppliersPartNumber: C25950; Resistance: 11KΩ; Tolerance: 1%
footprint 0603_R
pins: 1, 2

## 0603 12K (1202) 1%
designator R?, comment 12KΩ ±1%
Chip resistor; Manufacturer: Uniroyal Elec; PartNumber: 0603WAF1202T5E; Power: 1/10W; ComponentLink1Description: Supplier link; ComponentLink1URL: http://www.szlcsc.com/product/details_23517.html; Package: 0603; Supplier: LC; SuppliersPartNumber: C22790; Resistance: 12KΩ; Tolerance: 1%
footprint 0603_R
pins: 1, 2

## 0603 13K (1302) 1%
designator R?, comment 13KΩ ±1%
Chip resistor; Manufacturer: Uniroyal Elec; PartNumber: 0603WAF1302T5E; Power: 1/10W; ComponentLink1Description: Supplier link; ComponentLink1URL: http://www.szlcsc.com/product/details_23524.html; Package: 0603; Supplier: LC; SuppliersPartNumber: C22797; Resistance: 13KΩ; Tolerance: 1%
footprint 0603_R
pins: 1, 2

## 0603 15K (1502) 1%
designator R?, comment 15KΩ ±1%
Chip resistor; Manufacturer: Uniroyal Elec; PartNumber: 0603WAF1502T5E; Power: 1/10W; ComponentLink1Description: Supplier link; ComponentLink1URL: http://www.szlcsc.com/product/details_23536.html; Package: 0603; Supplier: LC; SuppliersPartNumber: C22809; Resistance: 15KΩ; Tolerance: 1%
footprint 0603_R
pins: 1, 2

## 0603 15R (15R0) 1%
designator R?, comment 15Ω ±1%
Chip resistor; Manufacturer: Uniroyal Elec; PartNumber: 0603WAF150JT5E; Power: 1/10W; ComponentLink1Description: Supplier link; ComponentLink1URL: http://www.szlcsc.com/product/details_23537.html; Package: 0603; Supplier: LC; SuppliersPartNumber: C22810; Resistance: 15Ω; Tolerance: 1%
footprint 0603_R
pins: 1, 2

## 0603 16K (1602) 1%
designator R?, comment 16KΩ ±1%
Chip resistor; Manufacturer: Uniroyal Elec; PartNumber: 0603WAF1602T5E; Power: 1/10W; ComponentLink1Description: Supplier link; ComponentLink1URL: http://www.szlcsc.com/product/details_23545.html; Package: 0603; Supplier: LC; SuppliersPartNumber: C22818; Resistance: 16KΩ; Tolerance: 1%
footprint 0603_R
pins: 1, 2

## 0603 18K (1802) 1%
designator R?, comment 18KΩ ±1%
Chip resistor; Manufacturer: Uniroyal Elec; PartNumber: 0603WAF1802T5E; Power: 1/10W; ComponentLink1Description: Supplier link; ComponentLink1URL: http://www.szlcsc.com/product/details_26553.html; Package: 0603; Supplier: LC; SuppliersPartNumber: C25810; Resistance: 18KΩ; Tolerance: 1%
footprint 0603_R
pins: 1, 2

## 0603 20K (2002) 1%
designator R?, comment 20KΩ ±1%
Chip resistor; Manufacturer: Uniroyal Elec; PartNumber: 0603WAF2002T5E; Power: 1/10W; ComponentLink1Description: Supplier link; ComponentLink1URL: http://www.szlcsc.com/product/details_4591.html; Package: 0603; Supplier: LC; SuppliersPartNumber: C4184; Resistance: 20KΩ; Tolerance: 1%
footprint 0603_R
pins: 1, 2

## 0603 20R (20R0) 1%
designator R?, comment 20Ω ±1%
Chip resistor; Manufacturer: Uniroyal Elec; PartNumber: 0603WAF200JT5E; Power: 1/10W; ComponentLink1Description: Supplier link; ComponentLink1URL: http://www.szlcsc.com/product/details_23677.html; Package: 0603; Supplier: LC; SuppliersPartNumber: C22950; Resistance: 20Ω; Tolerance: 1%
footprint 0603_R
pins: 1, 2

## 0603 22K (2202) 1%
designator R?, comment 22KΩ ±1%
Chip resistor; Manufacturer: Uniroyal Elec; PartNumber: 0603WAF2202T5E; Power: 1/10W; ComponentLink1Description: Supplier link; ComponentLink1URL: http://www.szlcsc.com/product/details_32812.html; Package: 0603; Supplier: LC; SuppliersPartNumber: C31850; Resistance: 22KΩ; Tolerance: 1%
footprint 0603_R
pins: 1, 2

## 0603 22R (22R0) 1%
designator R?, comment 22Ω ±1%
Chip resistor; Manufacturer: Uniroyal Elec; PartNumber: 0603WAF220JT5E; Power: 1/10W; ComponentLink1Description: Supplier link; ComponentLink1URL: http://www.szlcsc.com/product/details_24078.html; Package: 0603; Supplier: LC; SuppliersPartNumber: C23345; Resistance: 22Ω; Tolerance: 1%
footprint 0603_R
pins: 1, 2

## 0603 24K (2402) 1%
designator R?, comment 24KΩ ±1%
Chip resistor; Manufacturer: Uniroyal Elec; PartNumber: 0603WAF2402T5E; Power: 1/10W; ComponentLink1Description: Supplier link; ComponentLink1URL: http://www.szlcsc.com/product/details_24085.html; Package: 0603; Supplier: LC; SuppliersPartNumber: C23352; Resistance: 24KΩ; Tolerance: 1%
footprint 0603_R
pins: 1, 2

## 0603 24R (24R0) 1%
designator R?, comment 24Ω ±1%
Chip resistor; Manufacturer: Uniroyal Elec; PartNumber: 0603WAF240JT5E; Power: 1/10W; ComponentLink1Description: Supplier link; ComponentLink1URL: http://www.szlcsc.com/product/details_4605.html; Package: 0603; Supplier: LC; SuppliersPartNumber: C4198; Resistance: 24Ω; Tolerance: 1%
footprint 0603_R
pins: 1, 2

## 0603 27K (2702) 1%
designator R?, comment 27KΩ ±1%
Chip resistor; Manufacturer: Uniroyal Elec; PartNumber: 0603WAF2702T5E; Power: 1/10W; ComponentLink1Description: Supplier link; ComponentLink1URL: http://www.szlcsc.com/product/details_23694.html; Package: 0603; Supplier: LC; SuppliersPartNumber: C22967; Resistance: 27KΩ; Tolerance: 1%
footprint 0603_R
pins: 1, 2

## 0603 27R (27R0) 1%
designator R?, comment 27Ω ±1%
Chip resistor; Manufacturer: Uniroyal Elec; PartNumber: 0603WAF270JT5E; Power: 1/10W; ComponentLink1Description: Supplier link; ComponentLink1URL: http://www.szlcsc.com/product/details_25933.html; Package: 0603; Supplier: LC; SuppliersPartNumber: C25190; Resistance: 27Ω; Tolerance: 1%
footprint 0603_R
pins: 1, 2

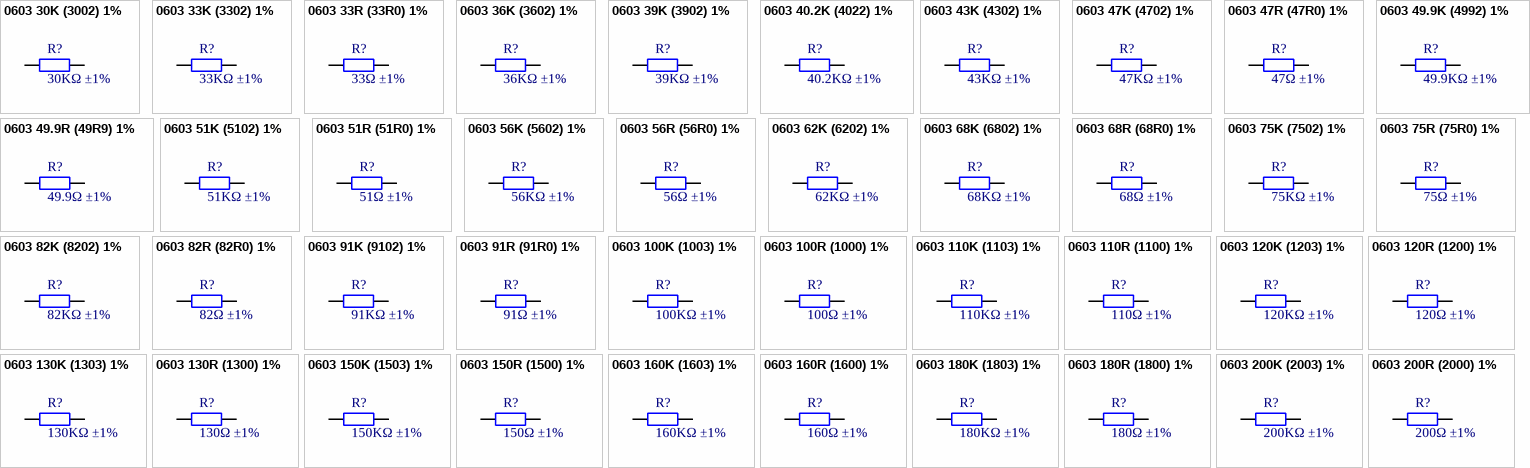
[diagram p3: symbols 0603 30K (3002) 1% to 0603 200R (2000) 1%]

## 0603 30K (3002) 1%
designator R?, comment 30KΩ ±1%
Chip resistor; Manufacturer: Uniroyal Elec; PartNumber: 0603WAF3002T5E; Power: 1/10W; ComponentLink1Description: Supplier link; ComponentLink1URL: http://www.szlcsc.com/product/details_23711.html; Package: 0603; Supplier: LC; SuppliersPartNumber: C22984; Resistance: 30KΩ; Tolerance: 1%
footprint 0603_R
pins: 1, 2

## 0603 33K (3302) 1%
designator R?, comment 33KΩ ±1%
Chip resistor; Manufacturer: Uniroyal Elec; PartNumber: 0603WAF3302T5E; Power: 1/10W; ComponentLink1Description: Supplier link; ComponentLink1URL: http://www.szlcsc.com/product/details_4623.html; Package: 0603; Supplier: LC; SuppliersPartNumber: C4216; Resistance: 33KΩ; Tolerance: 1%
footprint 0603_R
pins: 1, 2

## 0603 33R (33R0) 1%
designator R?, comment 33Ω ±1%
Chip resistor; Manufacturer: Uniroyal Elec; PartNumber: 0603WAF330JT5E; Power: 1/10W; ComponentLink1Description: Supplier link; ComponentLink1URL: http://www.szlcsc.com/product/details_23867.html; Package: 0603; Supplier: LC; SuppliersPartNumber: C23140; Resistance: 33Ω; Tolerance: 1%
footprint 0603_R
pins: 1, 2

## 0603 36K (3602) 1%
designator R?, comment 36KΩ ±1%
Chip resistor; Manufacturer: Uniroyal Elec; PartNumber: 0603WAF3602T5E; Power: 1/10W; ComponentLink1Description: Supplier link; ComponentLink1URL: http://www.szlcsc.com/product/details_23874.html; Package: 0603; Supplier: LC; SuppliersPartNumber: C23147; Resistance: 36KΩ; Tolerance: 1%
footprint 0603_R
pins: 1, 2

## 0603 39K (3902) 1%
designator R?, comment 39KΩ ±1%
Chip resistor; Manufacturer: Uniroyal Elec; PartNumber: 0603WAF3902T5E; Power: 1/10W; ComponentLink1Description: Supplier link; ComponentLink1URL: http://www.szlcsc.com/product/details_23880.html; Package: 0603; Supplier: LC; SuppliersPartNumber: C23153; Resistance: 39KΩ; Tolerance: 1%
footprint 0603_R
pins: 1, 2

## 0603 40.2K (4022) 1%
designator R?, comment 40.2KΩ ±1%
Chip resistor; Manufacturer: Uniroyal Elec; PartNumber: 0603WAF4022T5E; Power: 1/10W; ComponentLink1Description: Supplier link; ComponentLink1URL: http://www.szlcsc.com/product/details_13081.html; Package: 0603; Supplier: LC; SuppliersPartNumber: C12447; Resistance: 40.2KΩ; Tolerance: 1%
footprint 0603_R
pins: 1, 2

## 0603 43K (4302) 1%
designator R?, comment 43KΩ ±1%
Chip resistor; Manufacturer: Uniroyal Elec; PartNumber: 0603WAF4300T5E; Power: 1/10W; ComponentLink1Description: Supplier link; ComponentLink1URL: http://www.szlcsc.com/product/details_23899.html; Package: 0603; Supplier: LC; SuppliersPartNumber: C23172; Resistance: 43KΩ; Tolerance: 1%
footprint 0603_R
pins: 1, 2

## 0603 47K (4702) 1%
designator R?, comment 47KΩ ±1%
Chip resistor; Manufacturer: Uniroyal Elec; PartNumber: 0603WAF4702T5E; Power: 1/10W; ComponentLink1Description: Supplier link; ComponentLink1URL: http://www.szlcsc.com/product/details_26562.html; Package: 0603; Supplier: LC; SuppliersPartNumber: C25819; Resistance: 47KΩ; Tolerance: 1%
footprint 0603_R
pins: 1, 2

## 0603 47R (47R0) 1%
designator R?, comment 47Ω ±1%
Chip resistor; Manufacturer: Uniroyal Elec; PartNumber: 0603WAF470JT5E; Power: 1/10W; ComponentLink1Description: Supplier link; ComponentLink1URL: http://www.szlcsc.com/product/details_23909.html; Package: 0603; Supplier: LC; SuppliersPartNumber: C23182; Resistance: 47Ω; Tolerance: 1%
footprint 0603_R
pins: 1, 2

## 0603 49.9K (4992) 1%
designator R?, comment 49.9KΩ ±1%
Chip resistor; Manufacturer: Uniroyal Elec; PartNumber: 0603WAF4992T5E; Power: 1/10W; ComponentLink1Description: Supplier link; ComponentLink1URL: http://www.szlcsc.com/product/details_23911.html; Package: 0603; Supplier: LC; SuppliersPartNumber: C23184; Resistance: 49.9KΩ; Tolerance: 1%
footprint 0603_R
pins: 1, 2

## 0603 49.9R (49R9) 1%
designator R?, comment 49.9Ω ±1%
Chip resistor; Manufacturer: Uniroyal Elec; PartNumber: 0603WAF499JT5E; Power: 1/10W; ComponentLink1Description: Supplier link; ComponentLink1URL: http://www.szlcsc.com/product/details_23912.html; Package: 0603; Supplier: LC; SuppliersPartNumber: C23185; Resistance: 49.9Ω; Tolerance: 1%
footprint 0603_R
pins: 1, 2

## 0603 51K (5102) 1%
designator R?, comment 51KΩ ±1%
Chip resistor; Manufacturer: Uniroyal Elec; PartNumber: 0603WAF5102T5E; Power: 1/10W; ComponentLink1Description: Supplier link; ComponentLink1URL: http://www.szlcsc.com/product/details_23923.html; Package: 0603; Supplier: LC; SuppliersPartNumber: C23196; Resistance: 51KΩ; Tolerance: 1%
footprint 0603_R
pins: 1, 2

## 0603 51R (51R0) 1%
designator R?, comment 51Ω ±1%
Chip resistor; Manufacturer: Uniroyal Elec; PartNumber: 0603WAF510JT5E; Power: 1/10W; ComponentLink1Description: Supplier link; ComponentLink1URL: http://www.szlcsc.com/product/details_23924.html; Package: 0603; Supplier: LC; SuppliersPartNumber: C23197; Resistance: 51Ω; Tolerance: 1%
footprint 0603_R
pins: 1, 2

## 0603 56K (5602) 1%
designator R?, comment 56KΩ ±1%
Chip resistor; Manufacturer: Uniroyal Elec; PartNumber: 0603WAF5602T5E; Power: 1/10W; ComponentLink1Description: Supplier link; ComponentLink1URL: http://www.szlcsc.com/product/details_23933.html; Package: 0603; Supplier: LC; SuppliersPartNumber: C23206; Resistance: 56KΩ; Tolerance: 1%
footprint 0603_R
pins: 1, 2